# EAGLE library part 1751316 (library con-phoenix-350)
MKDS 1/ 9-3,5 Printklemme Nennstrom: 10 A Bemessungsspannung: 160 V Raster: 3,5 mm Polzahl: 9 Montageart: Löten Anschlussart: Schraubanschluss Anschlussrichtung vom Leiter zur Platine: 0° Source: http://eshop.phoenixcontact.com .. 1751316.pdf
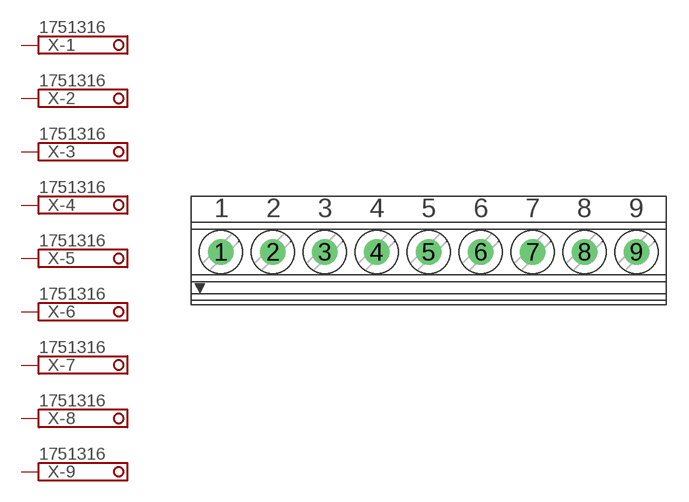
[diagram p1: symbol with the pads of 1751316; footprint 1751316]

Designator prefix X; gates -1=SCHRAUBKLEMME -2=SCHRAUBKLEMME -3=SCHRAUBKLEMME -4=SCHRAUBKLEMME -5=SCHRAUBKLEMME -6=SCHRAUBKLEMME -7=SCHRAUBKLEMME -8=SCHRAUBKLEMME -9=SCHRAUBKLEMME

## 1751316 (OC_FARNELL: unknown; OC_NEWARK: unknown)  [1751316]
1  -1:K  pas
2  -2:K  pas
3  -3:K  pas
4  -4:K  pas
5  -5:K  pas
6  -6:K  pas
7  -7:K  pas
8  -8:K  pas
9  -9:K  pas

## Footprint 1751316 (pad centres in mm)
MKDS 1/ 9-3,5 Printklemme Nennstrom: 10 A Bemessungsspannung: 160 V Raster: 3,5 mm Polzahl: 9 Montageart: Löten Anschlussart: Schraubanschluss Anschlussrichtung vom Leiter zur Platine: 0° Source: http://eshop.phoenixcontact.com .. 1751316.pdf
drill 1.1 pad 1.7 round: 1 -13.973,-0.1; 2 -10.473,-0.1; 3 -6.973,-0.1; 4 -3.473,-0.1; 5 0.028,-0.1; 6 3.527,-0.1; 7 7.027,-0.1; 8 10.527,-0.1; 9 14.027,-0.1